# Altium integrated library multisupport.IntLib: 2 symbols
Pins are listed as number, name and electrical type; pins without a type are passive.

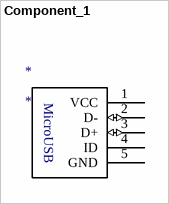
[diagram p0: symbol Component_1]

## Component_1
designator *
pins: 1 VCC (power), 2 D- (io), 3 D+ (io), 4 ID, 5 GND (power)
text: MicroUSB


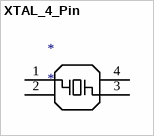
[diagram p1: symbol XTAL_4_Pin]

## XTAL_4_Pin
designator *
footprint SMD_XTAL4P_3225 (XTAL-4Pin)
pins: 1, 2, 3, 4